# Altium schematic symbol library EE310_example.SchLib: 1 symbol
Pins are listed as number, name and electrical type; pins without a type are passive.

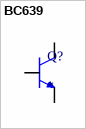
[diagram p0: symbol BC639]

## BC639
designator Q?
BC639 with correct footprint
footprint TO92
pins: 1, 2, 3